# EAGLE library part PULSE-OXIMETER (library Module)
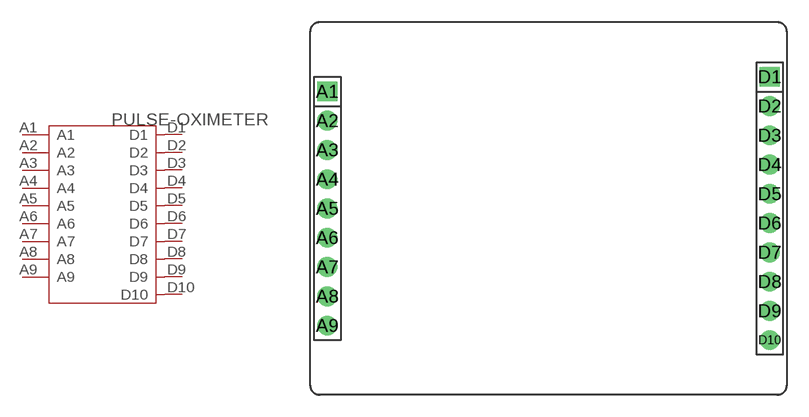
[diagram p24: symbol with the pads of PULSE-OXIMETER; footprint PULSE-OXIMETER]

Designator prefix U

## PULSE-OXIMETER  [PULSE-OXIMETER]
A1  A1
A2  A2
A3  A3
A4  A4
A5  A5
A6  A6
A7  A7
A8  A8
A9  A9
D1  D1
D2  D2
D3  D3
D4  D4
D5  D5
D6  D6
D7  D7
D8  D8
D9  D9
D10  D10

## Footprint PULSE-OXIMETER (pad centres in mm)
drill 0.8 pad 1.35 square: A1 -15.1,8; D1 15.1,9
drill 0.8 pad 1.35 round: A2 -15.1,6; A3 -15.1,4; A4 -15.1,2; A5 -15.1,0; A6 -15.1,-2; A7 -15.1,-4; A8 -15.1,-6; A9 -15.1,-8; D2 15.1,7; D3 15.1,5; D4 15.1,3; D5 15.1,1; D6 15.1,-1; D7 15.1,-3; D8 15.1,-5; D9 15.1,-7; D10 15.1,-9